# Altium footprint library MF-300.PcbLib: 1 footprints
Each footprint in its own frame and in the unit in brackets; x right, y up, seen from the top. Pads: shape width x height; smd on the part's side, far side on the other; paste and mask are expansions set on the pad; w line width, h text height; cw(c..) or ccw(c..) is an arc to the next point about the centre after c.
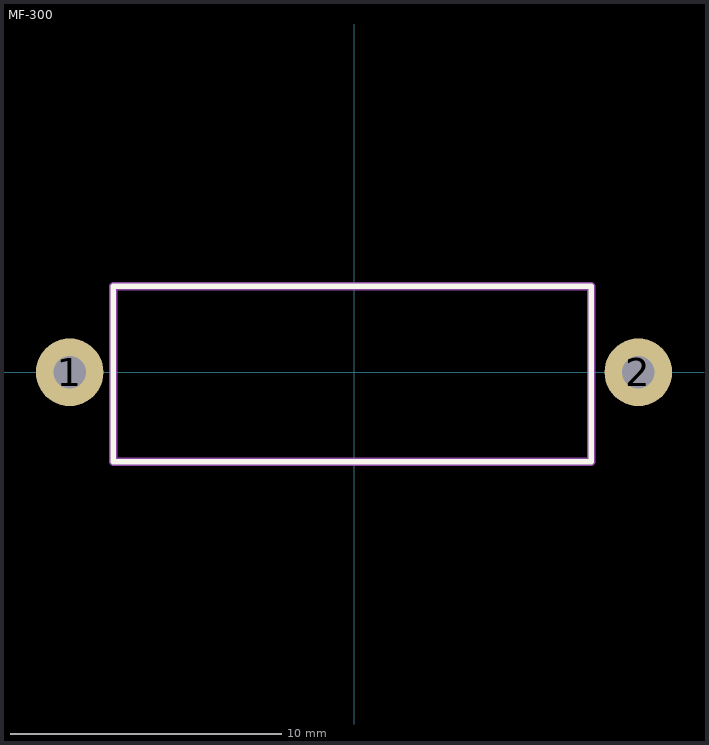
[diagram p0: the footprint, top view; thin cyan lines are the x and y axes]

## MF-300 [mm] "CAPR_pin_space-deep_x_weidth_x_height"
pads (2):
  round 2.5 hole 1.2: 1(-10.5,0) 2(10.5,0)
Top Overlay:
  lines w0.2: -8.89,-3.302 -8.89,3.175 8.763,3.175 8.763,-3.302 -8.89,-3.302
Mechanical 13:
  lines w0.3: -8.89,-3.302 -8.89,3.175 8.763,3.175 8.763,-3.302 -8.89,-3.302
  text ".Designator" at -3.302,-0.254 h1.52
3D body: height 8.3, standoff -2, extent -11.059,-3.3 11.141,3.3